# Altium schematic symbol library UZR0J101MCL1GB.SchLib: 2 symbols
Pins are listed as number, name and electrical type; pins without a type are passive.

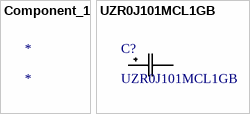
[diagram p0: symbols Component_1 to UZR0J101MCL1GB]

## Component_1
designator *

## UZR0J101MCL1GB
designator C?
No Description Available; Mfr_Name: Nichicon; Type: DEV; Copyright: Copyright (C) 2021 Ultra Librarian. All rights reserved.; Manufacturer_Part_Number: UZR0J101MCL1GB; RefDes: RefDes
footprint CAP_UZE_6P3X3P9_NCH
pins: 1, 2